# Altium schematic symbol library 3.6 - XMC系列单片机.SchLib: 1 symbol
Pins are listed as number, name and electrical type; pins without a type are passive.

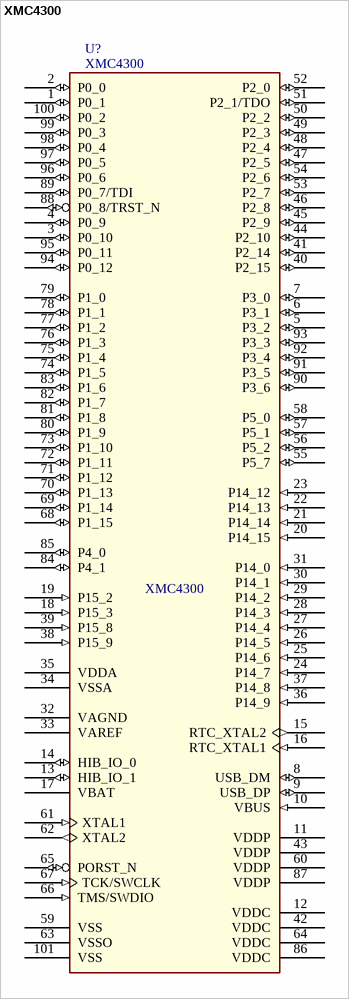
[diagram p0: symbol XMC4300]

## XMC4300
designator U?
IC
footprint QFP100
pins: 1 P0_1 (io), 2 P0_0 (io), 3 P0_10 (io), 4 P0_9 (io), 5 P3_2 (io), 6 P3_1 (io), 7 P3_0 (io), 8 USB_DM (io), 9 USB_DP (io), 10 VBUS (in), 11 VDDP (power), 12 VDDC (power), 13 HIB_IO_1 (io), 14 HIB_IO_0 (io), 15 RTC_XTAL2 (out), 16 RTC_XTAL1 (in), 17 VBAT (power), 18 P15_3 (in), 19 P15_2 (in), 20 P14_15 (in), 21 P14_14 (in), 22 P14_13 (in), 23 P14_12 (in), 24 P14_7 (in), 25 P14_6 (in), 26 P14_5 (in), 27 P14_4 (in), 28 P14_3 (in), 29 P14_2 (in), 30 P14_1 (in), 31 P14_0 (in), 32 VAGND (power), 33 VAREF (power), 34 VSSA (power), 35 VDDA (power), 36 P14_9 (in), 37 P14_8 (in), 38 P15_9 (in), 39 P15_8 (in), 40 P2_15 (io), 41 P2_14 (io), 42 VDDC (power), 43 VDDP (power), 44 P2_10 (io), 45 P2_9 (io), 46 P2_8 (io), 47 P2_5 (io), 48 P2_4 (io), 49 P2_3 (io), 50 P2_2 (io), 51 P2_1/TDO (io), 52 P2_0 (io), 53 P2_7 (io), 54 P2_6 (io), 55 P5_7 (io), 56 P5_2 (io), 57 P5_1 (io), 58 P5_0 (io), 59 VSS (power), 60 VDDP (power), 61 XTAL1 (in), 62 XTAL2 (out), 63 VSSO (power), 64 VDDC (power), 65 PORST_N (io), 66 TMS/SWDIO (in), 67 TCK/SWCLK (in), 68 P1_15 (io), 69 P1_14 (io), 70 P1_13 (io), 71 P1_12 (io), 72 P1_11 (io), 73 P1_10 (io), 74 P1_5 (io), 75 P1_4 (io), 76 P1_3 (io), 77 P1_2 (io), 78 P1_1 (io), 79 P1_0 (io), 80 P1_9 (io), 81 P1_8 (io), 82 P1_7 (io), 83 P1_6 (io), 84 P4_1 (io), 85 P4_0 (io), 86 VDDC (power), 87 VDDP (power), 88 P0_8/TRST_N (io), 89 P0_7/TDI (io), 90 P3_6 (io), 91 P3_5 (io), 92 P3_4 (io), 93 P3_3 (io), 94 P0_12 (io), 95 P0_11 (io), 96 P0_6 (io), 97 P0_5 (io), 98 P0_4 (io), 99 P0_3 (io), 100 P0_2 (io), 101 VSS (power) "Exposed Pad"